# Altium integrated library Linear Technology Power Management Switching Regulator LTC1174-LTC3901.IntLib: 2647 symbols (part 230 of 364)
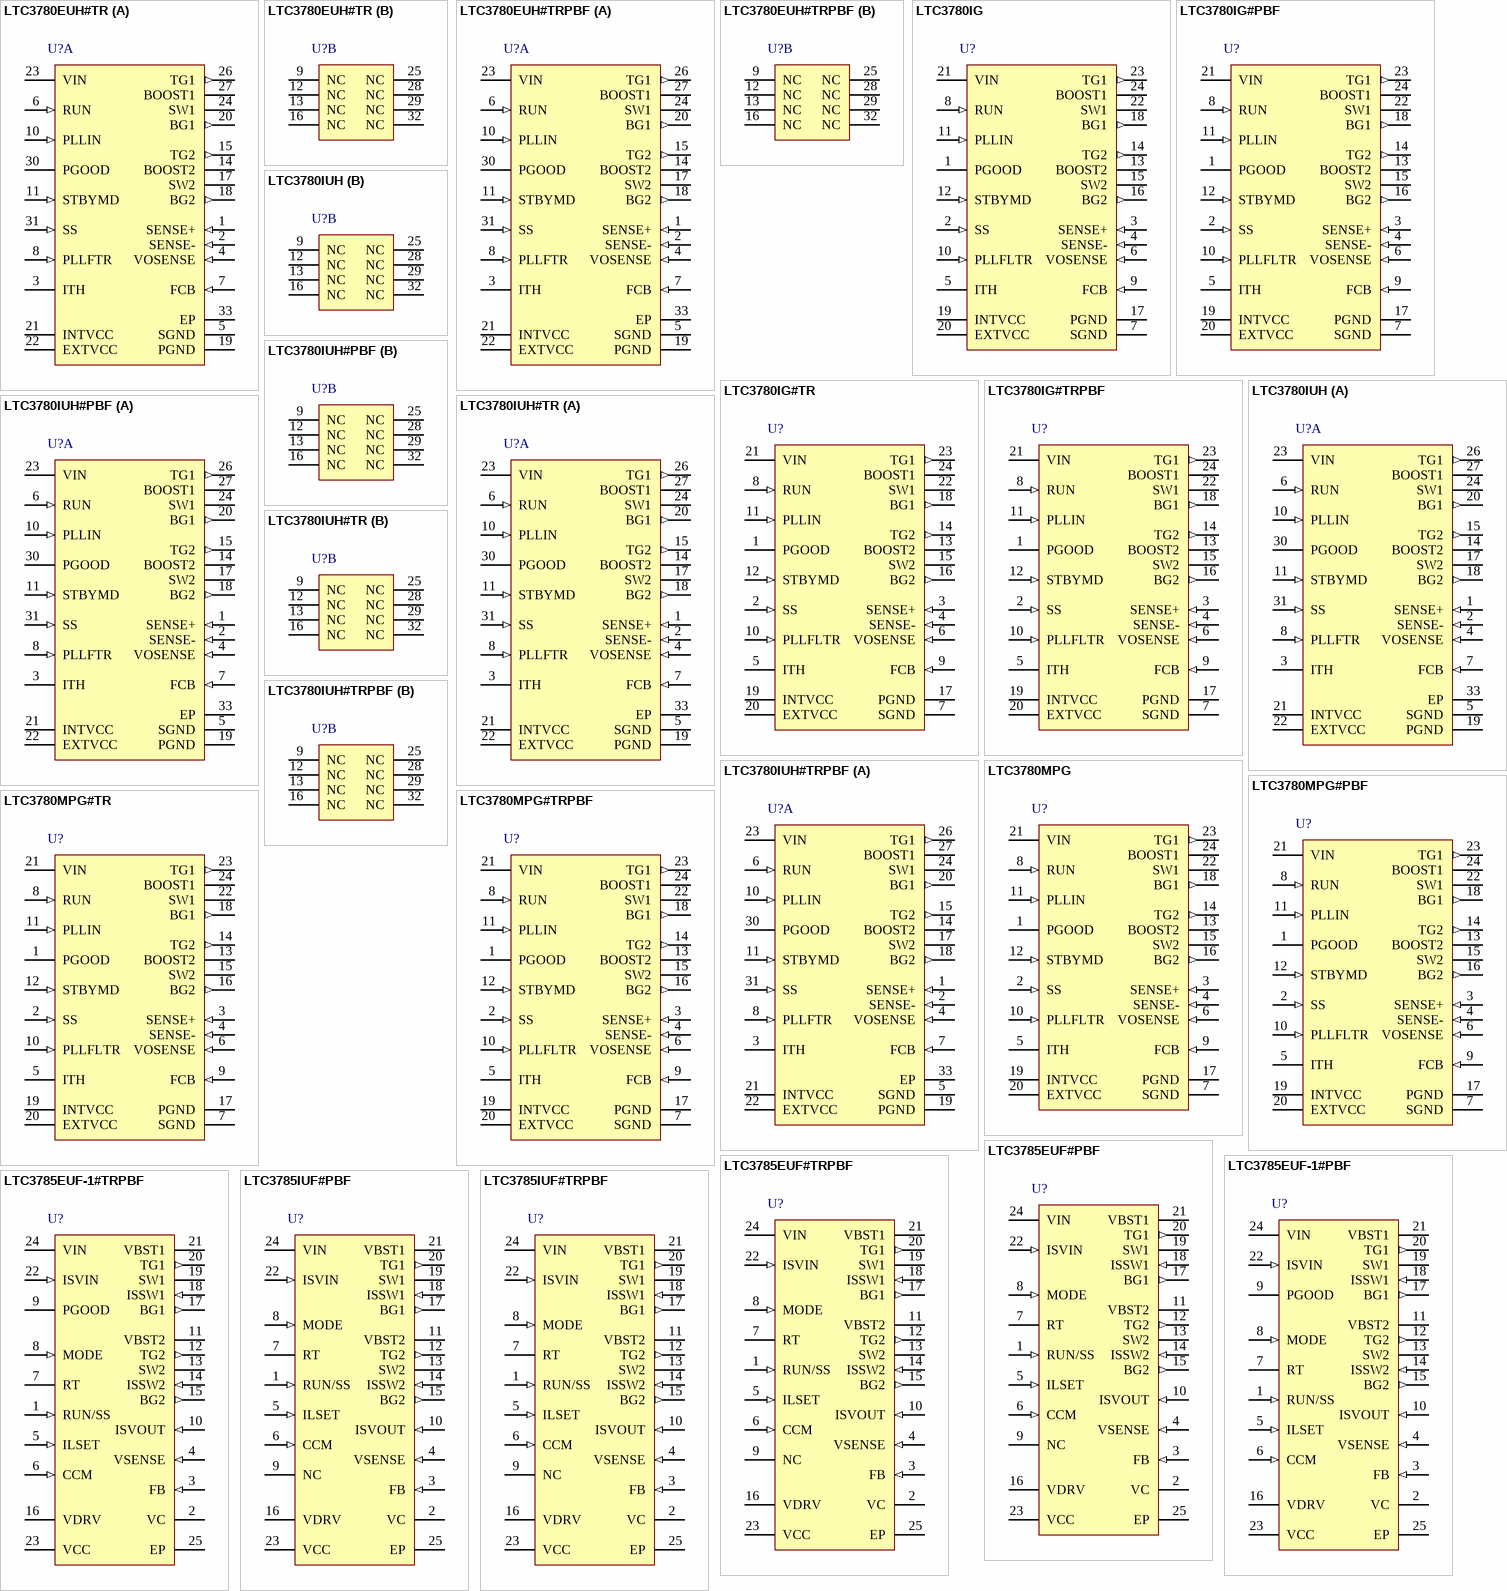
[diagram p234: symbols LTC3780EUH#TR to LTC3785IUF#TRPBF]

## LTC3780IG#TR
designator U?
Buck-boost Controller, Constant Frequency, Current Mode Control with Power Good Output, 24-pin SOP (G-24), -40 to 125 degC, Tape and Reel; Manufacturer: Linear Technology; PartNumber: LTC3780IG#TR; Frequency Sync Range: 200kHz - 400kHz; Number of Outputs: 1; DatasheetVersion: Rev. F; PackageVersion: Jun-10; PackageReference: G-24; PackageDescription: 24-Pin Plastic SSOP, Body 8.2 x 5.3 mm, Pitch 0.65 mm; Packing: Tape and Reel; RoHS: FALSE; Mounting Technology: Surface Mount; ComponentLink1Description: Manufacturer URL; ComponentLink1URL: http://www.linear.com/; ComponentLink2Description: Datasheet; ComponentLink2URL: http://cds.linear.com/docs/en/datasheet/3780ff.pdf; ComponentLink3Description: Package Specification; ComponentLink3URL: http://cds.linear.com/docs/en/packaging/SSOP_24_05-08-1640.pdf
footprint LT-G-24_N (SOP, 24-Leads, Body 8.5x5.6mm, Pitch 0.65mm, IPC Medium Density)
footprint LT-G-24_L (SOP, 24-Leads, Body 8.5x5.6mm, Pitch 0.65mm, IPC High Density)
footprint LT-G-24_M (SOP, 24-Leads, Body 8.5x5.6mm, Pitch 0.65mm, IPC Low Density)
pins: 1 PGOOD (oc) "Open-Drain Logic Output. PGOOD is pulled to ground when the output voltage is not within +/-7.5% of the regulation point.", 2 SS (in) "Soft-start reduces the input power sources’ surge currents by gradually increasing the controller’s current limit. A minimum value of 6.8nF is recommended on this pin.", 3 SENSE+ (in) "The (+) Input to the Current Sense and Reverse Current Detect Comparators. The ITH pin voltage and built-in offsets between SENSE- and SENSE+ pins, in conjunction with RSENSE, set the current trip threshold.", 4 SENSE- (in) "The (-) Input to the Current Sense and Reverse Current Detect Comparators.", 5 ITH "Current Control Threshold and Error Amplifier Compensation Point. The current comparator threshold increases with this control voltage. The voltage ranges from 0V to 2.4V.", 6 VOSENSE (in) "Error Amplifier Feedback Input. This pin connects the error amplifier input to an external resistor divider from VOUT.", 7 SGND (power) "Signal Ground. All small-signal components and compensation components should connect to this ground, which should be connected to PGND at a single point. The QFN exposed pad must be soldered to PCB ground for electrical (See Datasheet)", 8 RUN (in) "Run Control Input. Forcing the RUN pin below 1.5V causes the IC to shut down the switching regulator circuitry. There is a 100k resistor between the RUN pin and SGND in the IC. Do not apply >6V to this pin.", 9 FCB (in) "Forced Continuous Control Input. The voltage applied to this pin sets the operating mode of the controller. When the applied voltage is less than 0.8V, the forced continuous current mode is active. When this pin is allowed (See Datasheet)", 10 PLLFLTR (in) "The phase-locked loop’s lowpass filter is tied to this pin. Alternatively, this pin can be driven with an AC or DC voltage source to vary the frequency of the internal oscillator.", 11 PLLIN (in) "External Synchronization Input to Phase Detector. This pin is internally terminated to SGND with 50kohm. The phase-locked loop will force the rising bottom gate signal of the controller to be synchronized with the rising (See Datasheet)", 12 STBYMD (in) "LDO Control Pin. Determines whether the internal LDO remains active when the controller is shut down. See Operation section for details. If the STBYMD pin is pulled to ground, the SS pin is internally pulled to ground, (See Datasheet)", 13 BOOST2 "Boosted Floating Driver Supply. The (+) terminal of the bootstrap capacitor CA and CB (Figure 11) connects here. The BOOST2 pin swings from a diode voltage below INTVCC up to VIN+ INTVCC. The BOOST1 pin swings from a diode (See Datasheet)", 14 TG2 (out) "Top Gate Drive. Drives the top N-channel MOSFET with a voltage swing equal to INTVCC superimposed on the switch node voltage SW", 15 SW2 "Switch Node. The (-) terminal of the bootstrap capacitor CA and CB (Figure 11) connects here. The SW2 pin swings from a Schottky diode (external) voltage drop below ground up to VIN. The SW1 pin swings from a Schottky diode (See Datasheet)", 16 BG2 (out) "Bottom Gate Drive. Drives the gate of the bottom N-channel MOSFET between ground and INTVCC.", 17 PGND (power) "Power Ground. Connect this pin closely to the source of the bottom N-channel MOSFET, the (-) terminal of CVCC and the (-) terminal of CIN (Figure 11).", 18 BG1 (out) "Bottom Gate Drive. Drives the gate of the bottom N-channel MOSFET between ground and INTVCC.", 19 INTVCC (power) "Internal 6V Regulator Output. The driver and control circuits are powered from this voltage. Bypass this pin to ground with a minimum of 4.7uF low ESR tantalum or ceramic capacitor", 20 EXTVCC (power) "External VCC Input. When EXTVCC exceeds 5.7V, an internal switch connects this pin to INTVCC and shuts down the internal regulator so that the controller and gate drive power is drawn from EXTVCC. Do not exceed 7V at this (See Datasheet)", 21 VIN (power) "Main Input Supply. Bypass this pin to SGND with an RC filter (1ohm, 0.1uF).", 22 SW1 "Switch Node. The (-) terminal of the bootstrap capacitor CA and CB (Figure 11) connects here. The SW2 pin swings from a Schottky diode (external) voltage drop below ground up to VIN. The SW1 pin swings from a Schottky diode (See Datasheet)", 23 TG1 (out) "Top Gate Drive. Drives the top N-channel MOSFET with a voltage swing equal to INTVCC superimposed on the switch node voltage SW", 24 BOOST1 "Boosted Floating Driver Supply. The (+) terminal of the bootstrap capacitor CA and CB (Figure 11) connects here. The BOOST2 pin swings from a diode voltage below INTVCC up to VIN+ INTVCC. The BOOST1 pin swings from a diode (See Datasheet)"

## LTC3780IG#TRPBF
designator U?
Buck-boost Controller, Constant Frequency, Current Mode Control with Power Good Output, 24-pin SOP (G-24), -40 to 125 degC, Pb-Free, Tape and Reel; Manufacturer: Linear Technology; PartNumber: LTC3780IG#TRPBF; Frequency Sync Range: 200kHz - 400kHz; Number of Outputs: 1; DatasheetVersion: Rev. F; PackageVersion: Jun-10; PackageReference: G-24; PackageDescription: 24-Pin Plastic SSOP, Body 8.2 x 5.3 mm, Pitch 0.65 mm; Supplier 1: Digi-Key; Supplier Part Number 1: LTC3780IG#TRPBF-ND; Supplier 2: Newark; Supplier Part Number 2: 56M8405; Packing: Tape and Reel; RoHS: TRUE; Mounting Technology: Surface Mount; ComponentLink1Description: Manufacturer URL; ComponentLink1URL: http://www.linear.com/; ComponentLink2Description: Datasheet; ComponentLink2URL: http://cds.linear.com/docs/en/datasheet/3780ff.pdf; ComponentLink3Description: Package Specification; ComponentLink3URL: http://cds.linear.com/docs/en/packaging/SSOP_24_05-08-1640.pdf
footprint LT-G-24_N (SOP, 24-Leads, Body 8.5x5.6mm, Pitch 0.65mm, IPC Medium Density)
footprint LT-G-24_L (SOP, 24-Leads, Body 8.5x5.6mm, Pitch 0.65mm, IPC High Density)
footprint LT-G-24_M (SOP, 24-Leads, Body 8.5x5.6mm, Pitch 0.65mm, IPC Low Density)
pins: 1 PGOOD (oc) "Open-Drain Logic Output. PGOOD is pulled to ground when the output voltage is not within +/-7.5% of the regulation point.", 2 SS (in) "Soft-start reduces the input power sources’ surge currents by gradually increasing the controller’s current limit. A minimum value of 6.8nF is recommended on this pin.", 3 SENSE+ (in) "The (+) Input to the Current Sense and Reverse Current Detect Comparators. The ITH pin voltage and built-in offsets between SENSE- and SENSE+ pins, in conjunction with RSENSE, set the current trip threshold.", 4 SENSE- (in) "The (-) Input to the Current Sense and Reverse Current Detect Comparators.", 5 ITH "Current Control Threshold and Error Amplifier Compensation Point. The current comparator threshold increases with this control voltage. The voltage ranges from 0V to 2.4V.", 6 VOSENSE (in) "Error Amplifier Feedback Input. This pin connects the error amplifier input to an external resistor divider from VOUT.", 7 SGND (power) "Signal Ground. All small-signal components and compensation components should connect to this ground, which should be connected to PGND at a single point. The QFN exposed pad must be soldered to PCB ground for electrical (See Datasheet)", 8 RUN (in) "Run Control Input. Forcing the RUN pin below 1.5V causes the IC to shut down the switching regulator circuitry. There is a 100k resistor between the RUN pin and SGND in the IC. Do not apply >6V to this pin.", 9 FCB (in) "Forced Continuous Control Input. The voltage applied to this pin sets the operating mode of the controller. When the applied voltage is less than 0.8V, the forced continuous current mode is active. When this pin is allowed (See Datasheet)", 10 PLLFLTR (in) "The phase-locked loop’s lowpass filter is tied to this pin. Alternatively, this pin can be driven with an AC or DC voltage source to vary the frequency of the internal oscillator.", 11 PLLIN (in) "External Synchronization Input to Phase Detector. This pin is internally terminated to SGND with 50kohm. The phase-locked loop will force the rising bottom gate signal of the controller to be synchronized with the rising (See Datasheet)", 12 STBYMD (in) "LDO Control Pin. Determines whether the internal LDO remains active when the controller is shut down. See Operation section for details. If the STBYMD pin is pulled to ground, the SS pin is internally pulled to ground, (See Datasheet)", 13 BOOST2 "Boosted Floating Driver Supply. The (+) terminal of the bootstrap capacitor CA and CB (Figure 11) connects here. The BOOST2 pin swings from a diode voltage below INTVCC up to VIN+ INTVCC. The BOOST1 pin swings from a diode (See Datasheet)", 14 TG2 (out) "Top Gate Drive. Drives the top N-channel MOSFET with a voltage swing equal to INTVCC superimposed on the switch node voltage SW", 15 SW2 "Switch Node. The (-) terminal of the bootstrap capacitor CA and CB (Figure 11) connects here. The SW2 pin swings from a Schottky diode (external) voltage drop below ground up to VIN. The SW1 pin swings from a Schottky diode (See Datasheet)", 16 BG2 (out) "Bottom Gate Drive. Drives the gate of the bottom N-channel MOSFET between ground and INTVCC.", 17 PGND (power) "Power Ground. Connect this pin closely to the source of the bottom N-channel MOSFET, the (-) terminal of CVCC and the (-) terminal of CIN (Figure 11).", 18 BG1 (out) "Bottom Gate Drive. Drives the gate of the bottom N-channel MOSFET between ground and INTVCC.", 19 INTVCC (power) "Internal 6V Regulator Output. The driver and control circuits are powered from this voltage. Bypass this pin to ground with a minimum of 4.7uF low ESR tantalum or ceramic capacitor", 20 EXTVCC (power) "External VCC Input. When EXTVCC exceeds 5.7V, an internal switch connects this pin to INTVCC and shuts down the internal regulator so that the controller and gate drive power is drawn from EXTVCC. Do not exceed 7V at this (See Datasheet)", 21 VIN (power) "Main Input Supply. Bypass this pin to SGND with an RC filter (1ohm, 0.1uF).", 22 SW1 "Switch Node. The (-) terminal of the bootstrap capacitor CA and CB (Figure 11) connects here. The SW2 pin swings from a Schottky diode (external) voltage drop below ground up to VIN. The SW1 pin swings from a Schottky diode (See Datasheet)", 23 TG1 (out) "Top Gate Drive. Drives the top N-channel MOSFET with a voltage swing equal to INTVCC superimposed on the switch node voltage SW", 24 BOOST1 "Boosted Floating Driver Supply. The (+) terminal of the bootstrap capacitor CA and CB (Figure 11) connects here. The BOOST2 pin swings from a diode voltage below INTVCC up to VIN+ INTVCC. The BOOST1 pin swings from a diode (See Datasheet)"

## LTC3780IUH
designator U?
Buck-boost Controller, Constant Frequency, Current Mode Control with Power Good Output, 32-pin QFN (UH-32), -40 to 125 degC; Manufacturer: Linear Technology; PartNumber: LTC3780IUH; Frequency Sync Range: 200kHz - 400kHz; Number of Outputs: 1; DatasheetVersion: Rev. F; PackageVersion: Rev. D, 06/2010; PackageReference: UH-32; PackageDescription: 32-Pin Plastic QFN, Body 5 x 5 mm, Pitch 0.5 mm; Supplier 1: Newark; Supplier Part Number 1: 56M8406; RoHS: FALSE; Mounting Technology: Surface Mount; Code_JEDEC: MO-220; ComponentLink1Description: Manufacturer URL; ComponentLink1URL: http://www.linear.com/; ComponentLink2Description: Datasheet; ComponentLink2URL: http://cds.linear.com/docs/en/datasheet/3780ff.pdf; ComponentLink3Description: Package Specification; ComponentLink3URL: http://cds.linear.com/docs/en/packaging/QFN_32_05-08-1693.pdf
footprint LT-UH-32_N (QFN, 32-Leads, Body 5.1x5.1mm, Pitch 0.5mm, Thermal Pad 3.45X3.45mm, IPC Medium Density)
footprint LT-UH-32_L (QFN, 32-Leads, Body 5.1x5.1mm, Pitch 0.5mm, Thermal Pad 3.45X3.45mm, IPC High Density)
footprint LT-UH-32_M (QFN, 32-Leads, Body 5.1x5.1mm, Pitch 0.5mm, Thermal Pad 3.45X3.45mm, IPC Low Density)
part A pins: 1 SENSE+ (in) "The (+) Input to the Current Sense and Reverse Current Detect Comparators. The ITH pin voltage and built-in offsets between SENSE- and SENSE+ pins, in conjunction with RSENSE, set the current trip threshold.", 2 SENSE- (in) "The (-) Input to the Current Sense and Reverse Current Detect Comparators.", 3 ITH "Current Control Threshold and Error Amplifier Compensation Point. The current comparator threshold increases with this control voltage. The voltage ranges from 0V to 2.4V.", 4 VOSENSE (in) "Error Amplifier Feedback Input. This pin connects the error amplifier input to an external resistor divider from VOUT.", 5 SGND (power) "Signal Ground. All small-signal components and compensation components should connect to this ground, which should be connected to PGND at a single point. The QFN exposed pad must be soldered to PCB ground for electrical (See Datasheet)", 6 RUN (in) "Run Control Input. Forcing the RUN pin below 1.5V causes the IC to shut down the switching regulator circuitry. There is a 100k resistor between the RUN pin and SGND in the IC. Do not apply >6V to this pin.", 7 FCB (in) "Forced Continuous Control Input. The voltage applied to this pin sets the operating mode of the controller. When the applied voltage is less than 0.8V, the forced continuous current mode is active. When this pin is allowed (See Datasheet)", 8 PLLFTR (in) "The phase-locked loop’s lowpass filter is tied to this pin. Alternatively, this pin can be driven with an AC or DC voltage source to vary the frequency of the internal oscillator.", 10 PLLIN (in) "External Synchronization Input to Phase Detector. This pin is internally terminated to SGND with 50kohm. The phase-locked loop will force the rising bottom gate signal of the controller to be synchronized with the rising (See Datasheet)", 11 STBYMD (in) "LDO Control Pin. Determines whether the internal LDO remains active when the controller is shut down. See Operation section for details. If the STBYMD pin is pulled to ground, the SS pin is internally pulled to ground, (See Datasheet)", 14 BOOST2 "Boosted Floating Driver Supply. The (+) terminal of the bootstrap capacitor CA and CB (Figure 11) connects here. The BOOST2 pin swings from a diode voltage below INTVCC up to VIN+ INTVCC. The BOOST1 pin swings from a diode (See Datasheet)", 15 TG2 (out) "Top Gate Drive. Drives the top N-channel MOSFET with a voltage swing equal to INTVCC superimposed on the switch node voltage SW", 17 SW2 "Switch Node. The (-) terminal of the bootstrap capacitor CA and CB (Figure 11) connects here. The SW2 pin swings from a Schottky diode (external) voltage drop below ground up to VIN. The SW1 pin swings from a Schottky diode (See Datasheet)", 18 BG2 (out) "Bottom Gate Drive. Drives the gate of the bottom N-channel MOSFET between ground and INTVCC.", 19 PGND (power) "Power Ground. Connect this pin closely to the source of the bottom N-channel MOSFET, the (-) terminal of CVCC and the (-) terminal of CIN (Figure 11).", 20 BG1 (out) "Bottom Gate Drive. Drives the gate of the bottom N-channel MOSFET between ground and INTVCC.", 21 INTVCC (power) "Internal 6V Regulator Output. The driver and control circuits are powered from this voltage. Bypass this pin to ground with a minimum of 4.7uF low ESR tantalum or ceramic capacitor", 22 EXTVCC (power) "External VCC Input. When EXTVCC exceeds 5.7V, an internal switch connects this pin to INTVCC and shuts down the internal regulator so that the controller and gate drive power is drawn from EXTVCC. Do not exceed 7V at this (See Datasheet)", 23 VIN (power) "Main Input Supply. Bypass this pin to SGND with an RC filter (1ohm, 0.1uF).", 24 SW1 "Switch Node. The (-) terminal of the bootstrap capacitor CA and CB (Figure 11) connects here. The SW2 pin swings from a Schottky diode (external) voltage drop below ground up to VIN. The SW1 pin swings from a Schottky diode (See Datasheet)", 26 TG1 (out) "Top Gate Drive. Drives the top N-channel MOSFET with a voltage swing equal to INTVCC superimposed on the switch node voltage SW", 27 BOOST1 "Boosted Floating Driver Supply. The (+) terminal of the bootstrap capacitor CA and CB (Figure 11) connects here. The BOOST2 pin swings from a diode voltage below INTVCC up to VIN+ INTVCC. The BOOST1 pin swings from a diode (See Datasheet)", 30 PGOOD (oc) "Open-Drain Logic Output. PGOOD is pulled to ground when the output voltage is not within +/-7.5% of the regulation point.", 31 SS (in) "Soft-start reduces the input power sources’ surge currents by gradually increasing the controller’s current limit. A minimum value of 6.8nF is recommended on this pin.", 33 EP (power) "Signal Ground. All small-signal components and compensation components should connect to this ground, which should be connected to PGND at a single point. The QFN exposed pad must be soldered to PCB ground for electrical (See Datasheet)"
part B pins: 9 NC, 12 NC, 13 NC, 16 NC, 25 NC, 28 NC, 29 NC, 32 NC

## LTC3780IUH#PBF
designator U?
Buck-boost Controller, Constant Frequency, Current Mode Control with Power Good Output, 32-pin QFN (UH-32), -40 to 125 degC, Pb-Free; Manufacturer: Linear Technology; PartNumber: LTC3780IUH#PBF; Frequency Sync Range: 200kHz - 400kHz; Number of Outputs: 1; DatasheetVersion: Rev. F; PackageVersion: Rev. D, 06/2010; PackageReference: UH-32; PackageDescription: 32-Pin Plastic QFN, Body 5 x 5 mm, Pitch 0.5 mm; Supplier 1: Digi-Key; Supplier Part Number 1: LTC3780IUH#PBF-ND; Supplier 2: Farnell; Supplier Part Number 2: 1663721; Supplier 3: Newark; Supplier Part Number 3: 56M8407; RoHS: TRUE; Mounting Technology: Surface Mount; Code_JEDEC: MO-220; ComponentLink1Description: Manufacturer URL; ComponentLink1URL: http://www.linear.com/; ComponentLink2Description: Datasheet; ComponentLink2URL: http://cds.linear.com/docs/en/datasheet/3780ff.pdf; ComponentLink3Description: Package Specification; ComponentLink3URL: http://cds.linear.com/docs/en/packaging/QFN_32_05-08-1693.pdf
footprint LT-UH-32_N (QFN, 32-Leads, Body 5.1x5.1mm, Pitch 0.5mm, Thermal Pad 3.45X3.45mm, IPC Medium Density)
footprint LT-UH-32_L (QFN, 32-Leads, Body 5.1x5.1mm, Pitch 0.5mm, Thermal Pad 3.45X3.45mm, IPC High Density)
footprint LT-UH-32_M (QFN, 32-Leads, Body 5.1x5.1mm, Pitch 0.5mm, Thermal Pad 3.45X3.45mm, IPC Low Density)
part A pins: 1 SENSE+ (in) "The (+) Input to the Current Sense and Reverse Current Detect Comparators. The ITH pin voltage and built-in offsets between SENSE- and SENSE+ pins, in conjunction with RSENSE, set the current trip threshold.", 2 SENSE- (in) "The (-) Input to the Current Sense and Reverse Current Detect Comparators.", 3 ITH "Current Control Threshold and Error Amplifier Compensation Point. The current comparator threshold increases with this control voltage. The voltage ranges from 0V to 2.4V.", 4 VOSENSE (in) "Error Amplifier Feedback Input. This pin connects the error amplifier input to an external resistor divider from VOUT.", 5 SGND (power) "Signal Ground. All small-signal components and compensation components should connect to this ground, which should be connected to PGND at a single point. The QFN exposed pad must be soldered to PCB ground for electrical (See Datasheet)", 6 RUN (in) "Run Control Input. Forcing the RUN pin below 1.5V causes the IC to shut down the switching regulator circuitry. There is a 100k resistor between the RUN pin and SGND in the IC. Do not apply >6V to this pin.", 7 FCB (in) "Forced Continuous Control Input. The voltage applied to this pin sets the operating mode of the controller. When the applied voltage is less than 0.8V, the forced continuous current mode is active. When this pin is allowed (See Datasheet)", 8 PLLFTR (in) "The phase-locked loop’s lowpass filter is tied to this pin. Alternatively, this pin can be driven with an AC or DC voltage source to vary the frequency of the internal oscillator.", 10 PLLIN (in) "External Synchronization Input to Phase Detector. This pin is internally terminated to SGND with 50kohm. The phase-locked loop will force the rising bottom gate signal of the controller to be synchronized with the rising (See Datasheet)", 11 STBYMD (in) "LDO Control Pin. Determines whether the internal LDO remains active when the controller is shut down. See Operation section for details. If the STBYMD pin is pulled to ground, the SS pin is internally pulled to ground, (See Datasheet)", 14 BOOST2 "Boosted Floating Driver Supply. The (+) terminal of the bootstrap capacitor CA and CB (Figure 11) connects here. The BOOST2 pin swings from a diode voltage below INTVCC up to VIN+ INTVCC. The BOOST1 pin swings from a diode (See Datasheet)", 15 TG2 (out) "Top Gate Drive. Drives the top N-channel MOSFET with a voltage swing equal to INTVCC superimposed on the switch node voltage SW", 17 SW2 "Switch Node. The (-) terminal of the bootstrap capacitor CA and CB (Figure 11) connects here. The SW2 pin swings from a Schottky diode (external) voltage drop below ground up to VIN. The SW1 pin swings from a Schottky diode (See Datasheet)", 18 BG2 (out) "Bottom Gate Drive. Drives the gate of the bottom N-channel MOSFET between ground and INTVCC.", 19 PGND (power) "Power Ground. Connect this pin closely to the source of the bottom N-channel MOSFET, the (-) terminal of CVCC and the (-) terminal of CIN (Figure 11).", 20 BG1 (out) "Bottom Gate Drive. Drives the gate of the bottom N-channel MOSFET between ground and INTVCC.", 21 INTVCC (power) "Internal 6V Regulator Output. The driver and control circuits are powered from this voltage. Bypass this pin to ground with a minimum of 4.7uF low ESR tantalum or ceramic capacitor", 22 EXTVCC (power) "External VCC Input. When EXTVCC exceeds 5.7V, an internal switch connects this pin to INTVCC and shuts down the internal regulator so that the controller and gate drive power is drawn from EXTVCC. Do not exceed 7V at this (See Datasheet)", 23 VIN (power) "Main Input Supply. Bypass this pin to SGND with an RC filter (1ohm, 0.1uF).", 24 SW1 "Switch Node. The (-) terminal of the bootstrap capacitor CA and CB (Figure 11) connects here. The SW2 pin swings from a Schottky diode (external) voltage drop below ground up to VIN. The SW1 pin swings from a Schottky diode (See Datasheet)", 26 TG1 (out) "Top Gate Drive. Drives the top N-channel MOSFET with a voltage swing equal to INTVCC superimposed on the switch node voltage SW", 27 BOOST1 "Boosted Floating Driver Supply. The (+) terminal of the bootstrap capacitor CA and CB (Figure 11) connects here. The BOOST2 pin swings from a diode voltage below INTVCC up to VIN+ INTVCC. The BOOST1 pin swings from a diode (See Datasheet)", 30 PGOOD (oc) "Open-Drain Logic Output. PGOOD is pulled to ground when the output voltage is not within +/-7.5% of the regulation point.", 31 SS (in) "Soft-start reduces the input power sources’ surge currents by gradually increasing the controller’s current limit. A minimum value of 6.8nF is recommended on this pin.", 33 EP (power) "Signal Ground. All small-signal components and compensation components should connect to this ground, which should be connected to PGND at a single point. The QFN exposed pad must be soldered to PCB ground for electrical (See Datasheet)"
part B pins: 9 NC, 12 NC, 13 NC, 16 NC, 25 NC, 28 NC, 29 NC, 32 NC

## LTC3780IUH#TR
designator U?
Buck-boost Controller, Constant Frequency, Current Mode Control with Power Good Output, 32-pin QFN (UH-32), -40 to 125 degC, Tape and Reel; Manufacturer: Linear Technology; PartNumber: LTC3780IUH#TR; Frequency Sync Range: 200kHz - 400kHz; Number of Outputs: 1; DatasheetVersion: Rev. F; PackageVersion: Rev. D, 06/2010; PackageReference: UH-32; PackageDescription: 32-Pin Plastic QFN, Body 5 x 5 mm, Pitch 0.5 mm; Packing: Tape and Reel; RoHS: FALSE; Mounting Technology: Surface Mount; Code_JEDEC: MO-220; ComponentLink1Description: Manufacturer URL; ComponentLink1URL: http://www.linear.com/; ComponentLink2Description: Datasheet; ComponentLink2URL: http://cds.linear.com/docs/en/datasheet/3780ff.pdf; ComponentLink3Description: Package Specification; ComponentLink3URL: http://cds.linear.com/docs/en/packaging/QFN_32_05-08-1693.pdf
footprint LT-UH-32_N (QFN, 32-Leads, Body 5.1x5.1mm, Pitch 0.5mm, Thermal Pad 3.45X3.45mm, IPC Medium Density)
footprint LT-UH-32_L (QFN, 32-Leads, Body 5.1x5.1mm, Pitch 0.5mm, Thermal Pad 3.45X3.45mm, IPC High Density)
footprint LT-UH-32_M (QFN, 32-Leads, Body 5.1x5.1mm, Pitch 0.5mm, Thermal Pad 3.45X3.45mm, IPC Low Density)
part A pins: 1 SENSE+ (in) "The (+) Input to the Current Sense and Reverse Current Detect Comparators. The ITH pin voltage and built-in offsets between SENSE- and SENSE+ pins, in conjunction with RSENSE, set the current trip threshold.", 2 SENSE- (in) "The (-) Input to the Current Sense and Reverse Current Detect Comparators.", 3 ITH "Current Control Threshold and Error Amplifier Compensation Point. The current comparator threshold increases with this control voltage. The voltage ranges from 0V to 2.4V.", 4 VOSENSE (in) "Error Amplifier Feedback Input. This pin connects the error amplifier input to an external resistor divider from VOUT.", 5 SGND (power) "Signal Ground. All small-signal components and compensation components should connect to this ground, which should be connected to PGND at a single point. The QFN exposed pad must be soldered to PCB ground for electrical (See Datasheet)", 6 RUN (in) "Run Control Input. Forcing the RUN pin below 1.5V causes the IC to shut down the switching regulator circuitry. There is a 100k resistor between the RUN pin and SGND in the IC. Do not apply >6V to this pin.", 7 FCB (in) "Forced Continuous Control Input. The voltage applied to this pin sets the operating mode of the controller. When the applied voltage is less than 0.8V, the forced continuous current mode is active. When this pin is allowed (See Datasheet)", 8 PLLFTR (in) "The phase-locked loop’s lowpass filter is tied to this pin. Alternatively, this pin can be driven with an AC or DC voltage source to vary the frequency of the internal oscillator.", 10 PLLIN (in) "External Synchronization Input to Phase Detector. This pin is internally terminated to SGND with 50kohm. The phase-locked loop will force the rising bottom gate signal of the controller to be synchronized with the rising (See Datasheet)", 11 STBYMD (in) "LDO Control Pin. Determines whether the internal LDO remains active when the controller is shut down. See Operation section for details. If the STBYMD pin is pulled to ground, the SS pin is internally pulled to ground, (See Datasheet)", 14 BOOST2 "Boosted Floating Driver Supply. The (+) terminal of the bootstrap capacitor CA and CB (Figure 11) connects here. The BOOST2 pin swings from a diode voltage below INTVCC up to VIN+ INTVCC. The BOOST1 pin swings from a diode (See Datasheet)", 15 TG2 (out) "Top Gate Drive. Drives the top N-channel MOSFET with a voltage swing equal to INTVCC superimposed on the switch node voltage SW", 17 SW2 "Switch Node. The (-) terminal of the bootstrap capacitor CA and CB (Figure 11) connects here. The SW2 pin swings from a Schottky diode (external) voltage drop below ground up to VIN. The SW1 pin swings from a Schottky diode (See Datasheet)", 18 BG2 (out) "Bottom Gate Drive. Drives the gate of the bottom N-channel MOSFET between ground and INTVCC.", 19 PGND (power) "Power Ground. Connect this pin closely to the source of the bottom N-channel MOSFET, the (-) terminal of CVCC and the (-) terminal of CIN (Figure 11).", 20 BG1 (out) "Bottom Gate Drive. Drives the gate of the bottom N-channel MOSFET between ground and INTVCC.", 21 INTVCC (power) "Internal 6V Regulator Output. The driver and control circuits are powered from this voltage. Bypass this pin to ground with a minimum of 4.7uF low ESR tantalum or ceramic capacitor", 22 EXTVCC (power) "External VCC Input. When EXTVCC exceeds 5.7V, an internal switch connects this pin to INTVCC and shuts down the internal regulator so that the controller and gate drive power is drawn from EXTVCC. Do not exceed 7V at this (See Datasheet)", 23 VIN (power) "Main Input Supply. Bypass this pin to SGND with an RC filter (1ohm, 0.1uF).", 24 SW1 "Switch Node. The (-) terminal of the bootstrap capacitor CA and CB (Figure 11) connects here. The SW2 pin swings from a Schottky diode (external) voltage drop below ground up to VIN. The SW1 pin swings from a Schottky diode (See Datasheet)", 26 TG1 (out) "Top Gate Drive. Drives the top N-channel MOSFET with a voltage swing equal to INTVCC superimposed on the switch node voltage SW", 27 BOOST1 "Boosted Floating Driver Supply. The (+) terminal of the bootstrap capacitor CA and CB (Figure 11) connects here. The BOOST2 pin swings from a diode voltage below INTVCC up to VIN+ INTVCC. The BOOST1 pin swings from a diode (See Datasheet)", 30 PGOOD (oc) "Open-Drain Logic Output. PGOOD is pulled to ground when the output voltage is not within +/-7.5% of the regulation point.", 31 SS (in) "Soft-start reduces the input power sources’ surge currents by gradually increasing the controller’s current limit. A minimum value of 6.8nF is recommended on this pin.", 33 EP (power) "Signal Ground. All small-signal components and compensation components should connect to this ground, which should be connected to PGND at a single point. The QFN exposed pad must be soldered to PCB ground for electrical (See Datasheet)"
part B pins: 9 NC, 12 NC, 13 NC, 16 NC, 25 NC, 28 NC, 29 NC, 32 NC

## LTC3780IUH#TRPBF
designator U?
Buck-boost Controller, Constant Frequency, Current Mode Control with Power Good Output, 32-pin QFN (UH-32), -40 to 125 degC, Pb-Free, Tape and Reel; Manufacturer: Linear Technology; PartNumber: LTC3780IUH#TRPBF; Frequency Sync Range: 200kHz - 400kHz; Number of Outputs: 1; DatasheetVersion: Rev. F; PackageVersion: Rev. D, 06/2010; PackageReference: UH-32; PackageDescription: 32-Pin Plastic QFN, Body 5 x 5 mm, Pitch 0.5 mm; Supplier 1: Digi-Key; Supplier Part Number 1: LTC3780IUH#TRPBF-ND; Supplier 2: Newark; Supplier Part Number 2: 56M8409; Packing: Tape and Reel; RoHS: TRUE; Mounting Technology: Surface Mount; Code_JEDEC: MO-220; ComponentLink1Description: Manufacturer URL; ComponentLink1URL: http://www.linear.com/; ComponentLink2Description: Datasheet; ComponentLink2URL: http://cds.linear.com/docs/en/datasheet/3780ff.pdf; ComponentLink3Description: Package Specification; ComponentLink3URL: http://cds.linear.com/docs/en/packaging/QFN_32_05-08-1693.pdf
footprint LT-UH-32_N (QFN, 32-Leads, Body 5.1x5.1mm, Pitch 0.5mm, Thermal Pad 3.45X3.45mm, IPC Medium Density)
footprint LT-UH-32_L (QFN, 32-Leads, Body 5.1x5.1mm, Pitch 0.5mm, Thermal Pad 3.45X3.45mm, IPC High Density)
footprint LT-UH-32_M (QFN, 32-Leads, Body 5.1x5.1mm, Pitch 0.5mm, Thermal Pad 3.45X3.45mm, IPC Low Density)
part A pins: 1 SENSE+ (in) "The (+) Input to the Current Sense and Reverse Current Detect Comparators. The ITH pin voltage and built-in offsets between SENSE- and SENSE+ pins, in conjunction with RSENSE, set the current trip threshold.", 2 SENSE- (in) "The (-) Input to the Current Sense and Reverse Current Detect Comparators.", 3 ITH "Current Control Threshold and Error Amplifier Compensation Point. The current comparator threshold increases with this control voltage. The voltage ranges from 0V to 2.4V.", 4 VOSENSE (in) "Error Amplifier Feedback Input. This pin connects the error amplifier input to an external resistor divider from VOUT.", 5 SGND (power) "Signal Ground. All small-signal components and compensation components should connect to this ground, which should be connected to PGND at a single point. The QFN exposed pad must be soldered to PCB ground for electrical (See Datasheet)", 6 RUN (in) "Run Control Input. Forcing the RUN pin below 1.5V causes the IC to shut down the switching regulator circuitry. There is a 100k resistor between the RUN pin and SGND in the IC. Do not apply >6V to this pin.", 7 FCB (in) "Forced Continuous Control Input. The voltage applied to this pin sets the operating mode of the controller. When the applied voltage is less than 0.8V, the forced continuous current mode is active. When this pin is allowed (See Datasheet)", 8 PLLFTR (in) "The phase-locked loop’s lowpass filter is tied to this pin. Alternatively, this pin can be driven with an AC or DC voltage source to vary the frequency of the internal oscillator.", 10 PLLIN (in) "External Synchronization Input to Phase Detector. This pin is internally terminated to SGND with 50kohm. The phase-locked loop will force the rising bottom gate signal of the controller to be synchronized with the rising (See Datasheet)", 11 STBYMD (in) "LDO Control Pin. Determines whether the internal LDO remains active when the controller is shut down. See Operation section for details. If the STBYMD pin is pulled to ground, the SS pin is internally pulled to ground, (See Datasheet)", 14 BOOST2 "Boosted Floating Driver Supply. The (+) terminal of the bootstrap capacitor CA and CB (Figure 11) connects here. The BOOST2 pin swings from a diode voltage below INTVCC up to VIN+ INTVCC. The BOOST1 pin swings from a diode (See Datasheet)", 15 TG2 (out) "Top Gate Drive. Drives the top N-channel MOSFET with a voltage swing equal to INTVCC superimposed on the switch node voltage SW", 17 SW2 "Switch Node. The (-) terminal of the bootstrap capacitor CA and CB (Figure 11) connects here. The SW2 pin swings from a Schottky diode (external) voltage drop below ground up to VIN. The SW1 pin swings from a Schottky diode (See Datasheet)", 18 BG2 (out) "Bottom Gate Drive. Drives the gate of the bottom N-channel MOSFET between ground and INTVCC.", 19 PGND (power) "Power Ground. Connect this pin closely to the source of the bottom N-channel MOSFET, the (-) terminal of CVCC and the (-) terminal of CIN (Figure 11).", 20 BG1 (out) "Bottom Gate Drive. Drives the gate of the bottom N-channel MOSFET between ground and INTVCC.", 21 INTVCC (power) "Internal 6V Regulator Output. The driver and control circuits are powered from this voltage. Bypass this pin to ground with a minimum of 4.7uF low ESR tantalum or ceramic capacitor", 22 EXTVCC (power) "External VCC Input. When EXTVCC exceeds 5.7V, an internal switch connects this pin to INTVCC and shuts down the internal regulator so that the controller and gate drive power is drawn from EXTVCC. Do not exceed 7V at this (See Datasheet)", 23 VIN (power) "Main Input Supply. Bypass this pin to SGND with an RC filter (1ohm, 0.1uF).", 24 SW1 "Switch Node. The (-) terminal of the bootstrap capacitor CA and CB (Figure 11) connects here. The SW2 pin swings from a Schottky diode (external) voltage drop below ground up to VIN. The SW1 pin swings from a Schottky diode (See Datasheet)", 26 TG1 (out) "Top Gate Drive. Drives the top N-channel MOSFET with a voltage swing equal to INTVCC superimposed on the switch node voltage SW", 27 BOOST1 "Boosted Floating Driver Supply. The (+) terminal of the bootstrap capacitor CA and CB (Figure 11) connects here. The BOOST2 pin swings from a diode voltage below INTVCC up to VIN+ INTVCC. The BOOST1 pin swings from a diode (See Datasheet)", 30 PGOOD (oc) "Open-Drain Logic Output. PGOOD is pulled to ground when the output voltage is not within +/-7.5% of the regulation point.", 31 SS (in) "Soft-start reduces the input power sources’ surge currents by gradually increasing the controller’s current limit. A minimum value of 6.8nF is recommended on this pin.", 33 EP (power) "Signal Ground. All small-signal components and compensation components should connect to this ground, which should be connected to PGND at a single point. The QFN exposed pad must be soldered to PCB ground for electrical (See Datasheet)"
part B pins: 9 NC, 12 NC, 13 NC, 16 NC, 25 NC, 28 NC, 29 NC, 32 NC

## LTC3780MPG
designator U?
Buck-boost Controller, Constant Frequency, Current Mode Control with Power Good Output, 24-pin SOP (G-24), -55 to 125 degC; Manufacturer: Linear Technology; PartNumber: LTC3780MPG; Frequency Sync Range: 200kHz - 400kHz; Number of Outputs: 1; DatasheetVersion: Rev. F; PackageVersion: Jun-10; PackageReference: G-24; PackageDescription: 24-Pin Plastic SSOP, Body 8.2 x 5.3 mm, Pitch 0.65 mm; RoHS: FALSE; Mounting Technology: Surface Mount; ComponentLink1Description: Manufacturer URL; ComponentLink1URL: http://www.linear.com/; ComponentLink2Description: Datasheet; ComponentLink2URL: http://cds.linear.com/docs/en/datasheet/3780ff.pdf; ComponentLink3Description: Package Specification; ComponentLink3URL: http://cds.linear.com/docs/en/packaging/SSOP_24_05-08-1640.pdf
footprint LT-G-24_N (SOP, 24-Leads, Body 8.5x5.6mm, Pitch 0.65mm, IPC Medium Density)
footprint LT-G-24_L (SOP, 24-Leads, Body 8.5x5.6mm, Pitch 0.65mm, IPC High Density)
footprint LT-G-24_M (SOP, 24-Leads, Body 8.5x5.6mm, Pitch 0.65mm, IPC Low Density)
pins: 1 PGOOD (oc) "Open-Drain Logic Output. PGOOD is pulled to ground when the output voltage is not within +/-7.5% of the regulation point.", 2 SS (in) "Soft-start reduces the input power sources’ surge currents by gradually increasing the controller’s current limit. A minimum value of 6.8nF is recommended on this pin.", 3 SENSE+ (in) "The (+) Input to the Current Sense and Reverse Current Detect Comparators. The ITH pin voltage and built-in offsets between SENSE- and SENSE+ pins, in conjunction with RSENSE, set the current trip threshold.", 4 SENSE- (in) "The (-) Input to the Current Sense and Reverse Current Detect Comparators.", 5 ITH "Current Control Threshold and Error Amplifier Compensation Point. The current comparator threshold increases with this control voltage. The voltage ranges from 0V to 2.4V.", 6 VOSENSE (in) "Error Amplifier Feedback Input. This pin connects the error amplifier input to an external resistor divider from VOUT.", 7 SGND (power) "Signal Ground. All small-signal components and compensation components should connect to this ground, which should be connected to PGND at a single point. The QFN exposed pad must be soldered to PCB ground for electrical (See Datasheet)", 8 RUN (in) "Run Control Input. Forcing the RUN pin below 1.5V causes the IC to shut down the switching regulator circuitry. There is a 100k resistor between the RUN pin and SGND in the IC. Do not apply >6V to this pin.", 9 FCB (in) "Forced Continuous Control Input. The voltage applied to this pin sets the operating mode of the controller. When the applied voltage is less than 0.8V, the forced continuous current mode is active. When this pin is allowed (See Datasheet)", 10 PLLFLTR (in) "The phase-locked loop’s lowpass filter is tied to this pin. Alternatively, this pin can be driven with an AC or DC voltage source to vary the frequency of the internal oscillator.", 11 PLLIN (in) "External Synchronization Input to Phase Detector. This pin is internally terminated to SGND with 50kohm. The phase-locked loop will force the rising bottom gate signal of the controller to be synchronized with the rising (See Datasheet)", 12 STBYMD (in) "LDO Control Pin. Determines whether the internal LDO remains active when the controller is shut down. See Operation section for details. If the STBYMD pin is pulled to ground, the SS pin is internally pulled to ground, (See Datasheet)", 13 BOOST2 "Boosted Floating Driver Supply. The (+) terminal of the bootstrap capacitor CA and CB (Figure 11) connects here. The BOOST2 pin swings from a diode voltage below INTVCC up to VIN+ INTVCC. The BOOST1 pin swings from a diode (See Datasheet)", 14 TG2 (out) "Top Gate Drive. Drives the top N-channel MOSFET with a voltage swing equal to INTVCC superimposed on the switch node voltage SW", 15 SW2 "Switch Node. The (-) terminal of the bootstrap capacitor CA and CB (Figure 11) connects here. The SW2 pin swings from a Schottky diode (external) voltage drop below ground up to VIN. The SW1 pin swings from a Schottky diode (See Datasheet)", 16 BG2 (out) "Bottom Gate Drive. Drives the gate of the bottom N-channel MOSFET between ground and INTVCC.", 17 PGND (power) "Power Ground. Connect this pin closely to the source of the bottom N-channel MOSFET, the (-) terminal of CVCC and the (-) terminal of CIN (Figure 11).", 18 BG1 (out) "Bottom Gate Drive. Drives the gate of the bottom N-channel MOSFET between ground and INTVCC.", 19 INTVCC (power) "Internal 6V Regulator Output. The driver and control circuits are powered from this voltage. Bypass this pin to ground with a minimum of 4.7uF low ESR tantalum or ceramic capacitor", 20 EXTVCC (power) "External VCC Input. When EXTVCC exceeds 5.7V, an internal switch connects this pin to INTVCC and shuts down the internal regulator so that the controller and gate drive power is drawn from EXTVCC. Do not exceed 7V at this (See Datasheet)", 21 VIN (power) "Main Input Supply. Bypass this pin to SGND with an RC filter (1ohm, 0.1uF).", 22 SW1 "Switch Node. The (-) terminal of the bootstrap capacitor CA and CB (Figure 11) connects here. The SW2 pin swings from a Schottky diode (external) voltage drop below ground up to VIN. The SW1 pin swings from a Schottky diode (See Datasheet)", 23 TG1 (out) "Top Gate Drive. Drives the top N-channel MOSFET with a voltage swing equal to INTVCC superimposed on the switch node voltage SW", 24 BOOST1 "Boosted Floating Driver Supply. The (+) terminal of the bootstrap capacitor CA and CB (Figure 11) connects here. The BOOST2 pin swings from a diode voltage below INTVCC up to VIN+ INTVCC. The BOOST1 pin swings from a diode (See Datasheet)"

## LTC3780MPG#PBF
designator U?
Buck-boost Controller, Constant Frequency, Current Mode Control with Power Good Output, 24-pin SOP (G-24), -55 to 125 degC, Pb-Free; Manufacturer: Linear Technology; PartNumber: LTC3780MPG#PBF; Frequency Sync Range: 200kHz - 400kHz; Number of Outputs: 1; DatasheetVersion: Rev. F; PackageVersion: Jun-10; PackageReference: G-24; PackageDescription: 24-Pin Plastic SSOP, Body 8.2 x 5.3 mm, Pitch 0.65 mm; Supplier 1: Digi-Key; Supplier Part Number 1: LTC3780MPG#PBF-ND; RoHS: TRUE; Mounting Technology: Surface Mount; ComponentLink1Description: Manufacturer URL; ComponentLink1URL: http://www.linear.com/; ComponentLink2Description: Datasheet; ComponentLink2URL: http://cds.linear.com/docs/en/datasheet/3780ff.pdf; ComponentLink3Description: Package Specification; ComponentLink3URL: http://cds.linear.com/docs/en/packaging/SSOP_24_05-08-1640.pdf
footprint LT-G-24_N (SOP, 24-Leads, Body 8.5x5.6mm, Pitch 0.65mm, IPC Medium Density)
footprint LT-G-24_L (SOP, 24-Leads, Body 8.5x5.6mm, Pitch 0.65mm, IPC High Density)
footprint LT-G-24_M (SOP, 24-Leads, Body 8.5x5.6mm, Pitch 0.65mm, IPC Low Density)
pins: 1 PGOOD (oc) "Open-Drain Logic Output. PGOOD is pulled to ground when the output voltage is not within +/-7.5% of the regulation point.", 2 SS (in) "Soft-start reduces the input power sources’ surge currents by gradually increasing the controller’s current limit. A minimum value of 6.8nF is recommended on this pin.", 3 SENSE+ (in) "The (+) Input to the Current Sense and Reverse Current Detect Comparators. The ITH pin voltage and built-in offsets between SENSE- and SENSE+ pins, in conjunction with RSENSE, set the current trip threshold.", 4 SENSE- (in) "The (-) Input to the Current Sense and Reverse Current Detect Comparators.", 5 ITH "Current Control Threshold and Error Amplifier Compensation Point. The current comparator threshold increases with this control voltage. The voltage ranges from 0V to 2.4V.", 6 VOSENSE (in) "Error Amplifier Feedback Input. This pin connects the error amplifier input to an external resistor divider from VOUT.", 7 SGND (power) "Signal Ground. All small-signal components and compensation components should connect to this ground, which should be connected to PGND at a single point. The QFN exposed pad must be soldered to PCB ground for electrical (See Datasheet)", 8 RUN (in) "Run Control Input. Forcing the RUN pin below 1.5V causes the IC to shut down the switching regulator circuitry. There is a 100k resistor between the RUN pin and SGND in the IC. Do not apply >6V to this pin.", 9 FCB (in) "Forced Continuous Control Input. The voltage applied to this pin sets the operating mode of the controller. When the applied voltage is less than 0.8V, the forced continuous current mode is active. When this pin is allowed (See Datasheet)", 10 PLLFLTR (in) "The phase-locked loop’s lowpass filter is tied to this pin. Alternatively, this pin can be driven with an AC or DC voltage source to vary the frequency of the internal oscillator.", 11 PLLIN (in) "External Synchronization Input to Phase Detector. This pin is internally terminated to SGND with 50kohm. The phase-locked loop will force the rising bottom gate signal of the controller to be synchronized with the rising (See Datasheet)", 12 STBYMD (in) "LDO Control Pin. Determines whether the internal LDO remains active when the controller is shut down. See Operation section for details. If the STBYMD pin is pulled to ground, the SS pin is internally pulled to ground, (See Datasheet)", 13 BOOST2 "Boosted Floating Driver Supply. The (+) terminal of the bootstrap capacitor CA and CB (Figure 11) connects here. The BOOST2 pin swings from a diode voltage below INTVCC up to VIN+ INTVCC. The BOOST1 pin swings from a diode (See Datasheet)", 14 TG2 (out) "Top Gate Drive. Drives the top N-channel MOSFET with a voltage swing equal to INTVCC superimposed on the switch node voltage SW", 15 SW2 "Switch Node. The (-) terminal of the bootstrap capacitor CA and CB (Figure 11) connects here. The SW2 pin swings from a Schottky diode (external) voltage drop below ground up to VIN. The SW1 pin swings from a Schottky diode (See Datasheet)", 16 BG2 (out) "Bottom Gate Drive. Drives the gate of the bottom N-channel MOSFET between ground and INTVCC.", 17 PGND (power) "Power Ground. Connect this pin closely to the source of the bottom N-channel MOSFET, the (-) terminal of CVCC and the (-) terminal of CIN (Figure 11).", 18 BG1 (out) "Bottom Gate Drive. Drives the gate of the bottom N-channel MOSFET between ground and INTVCC.", 19 INTVCC (power) "Internal 6V Regulator Output. The driver and control circuits are powered from this voltage. Bypass this pin to ground with a minimum of 4.7uF low ESR tantalum or ceramic capacitor", 20 EXTVCC (power) "External VCC Input. When EXTVCC exceeds 5.7V, an internal switch connects this pin to INTVCC and shuts down the internal regulator so that the controller and gate drive power is drawn from EXTVCC. Do not exceed 7V at this (See Datasheet)", 21 VIN (power) "Main Input Supply. Bypass this pin to SGND with an RC filter (1ohm, 0.1uF).", 22 SW1 "Switch Node. The (-) terminal of the bootstrap capacitor CA and CB (Figure 11) connects here. The SW2 pin swings from a Schottky diode (external) voltage drop below ground up to VIN. The SW1 pin swings from a Schottky diode (See Datasheet)", 23 TG1 (out) "Top Gate Drive. Drives the top N-channel MOSFET with a voltage swing equal to INTVCC superimposed on the switch node voltage SW", 24 BOOST1 "Boosted Floating Driver Supply. The (+) terminal of the bootstrap capacitor CA and CB (Figure 11) connects here. The BOOST2 pin swings from a diode voltage below INTVCC up to VIN+ INTVCC. The BOOST1 pin swings from a diode (See Datasheet)"